# Altium schematic symbol library SI5345B-D-GM.SchLib: 1 symbol
Pins are listed as number, name and electrical type; pins without a type are passive.

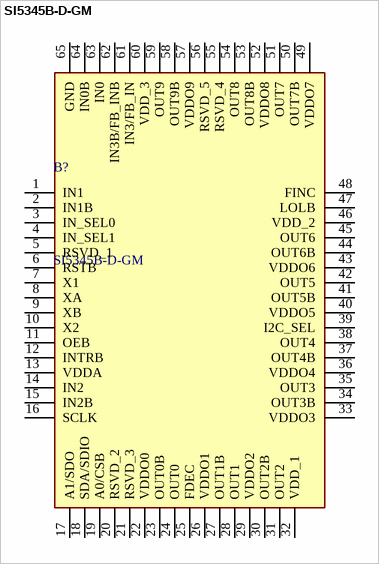
[diagram p0: symbol SI5345B-D-GM]

## SI5345B-D-GM
designator B?
Clock Synthesizer / Jitter Cleaner Low-jitter, 10-output, any frequency (< 350 MHz), any output jitter attenuator; Manufacturer_Name: Skyworks; Geometry.Height: 0.9mm; Mouser Part Number: 634-SI5345B-D-GM; Mouser Price/Stock: https://www.mouser.co.uk/ProductDetail/Skyworks-Solutions-Inc/SI5345B-D-GM?qs=p9T7GgSe1IGHqFUKlxUKrA%3D%3D; Manufacturer_Part_Number: SI5345B-D-GM; Datasheet Link: https://www.mouser.sg/datasheet/2/472/si5345_44_42_d_datasheet-2507675.pdf
footprint QFN50P900X900X90-65N-D
pins: 1 IN1, 2 IN1B, 3 IN_SEL0, 4 IN_SEL1, 5 RSVD_1, 6 RSTB, 7 X1, 8 XA, 9 XB, 10 X2, 11 OEB, 12 INTRB, 13 VDDA, 14 IN2, 15 IN2B, 16 SCLK, 17 A1/SDO, 18 SDA/SDIO, 19 A0/CSB, 20 RSVD_2, 21 RSVD_3, 22 VDDO0, 23 OUT0B, 24 OUT0, 25 FDEC, 26 VDDO1, 27 OUT1B, 28 OUT1, 29 VDDO2, 30 OUT2B, 31 OUT2, 32 VDD_1, 33 VDDO3, 34 OUT3B, 35 OUT3, 36 VDDO4, 37 OUT4B, 38 OUT4, 39 I2C_SEL, 40 VDDO5, 41 OUT5B, 42 OUT5, 43 VDDO6, 44 OUT6B, 45 OUT6, 46 VDD_2, 47 LOLB, 48 FINC, 49 VDDO7, 50 OUT7B, 51 OUT7, 52 VDDO8, 53 OUT8B, 54 OUT8, 55 RSVD_4, 56 RSVD_5, 57 VDDO9, 58 OUT9B, 59 OUT9, 60 VDD_3, 61 IN3/FB_IN, 62 IN3B/FB_INB, 63 IN0, 64 IN0B, 65 GND